# Altium schematic symbol library CM3_CM4_2021_Lib.SchLib: 258 symbols (part 4 of 4)
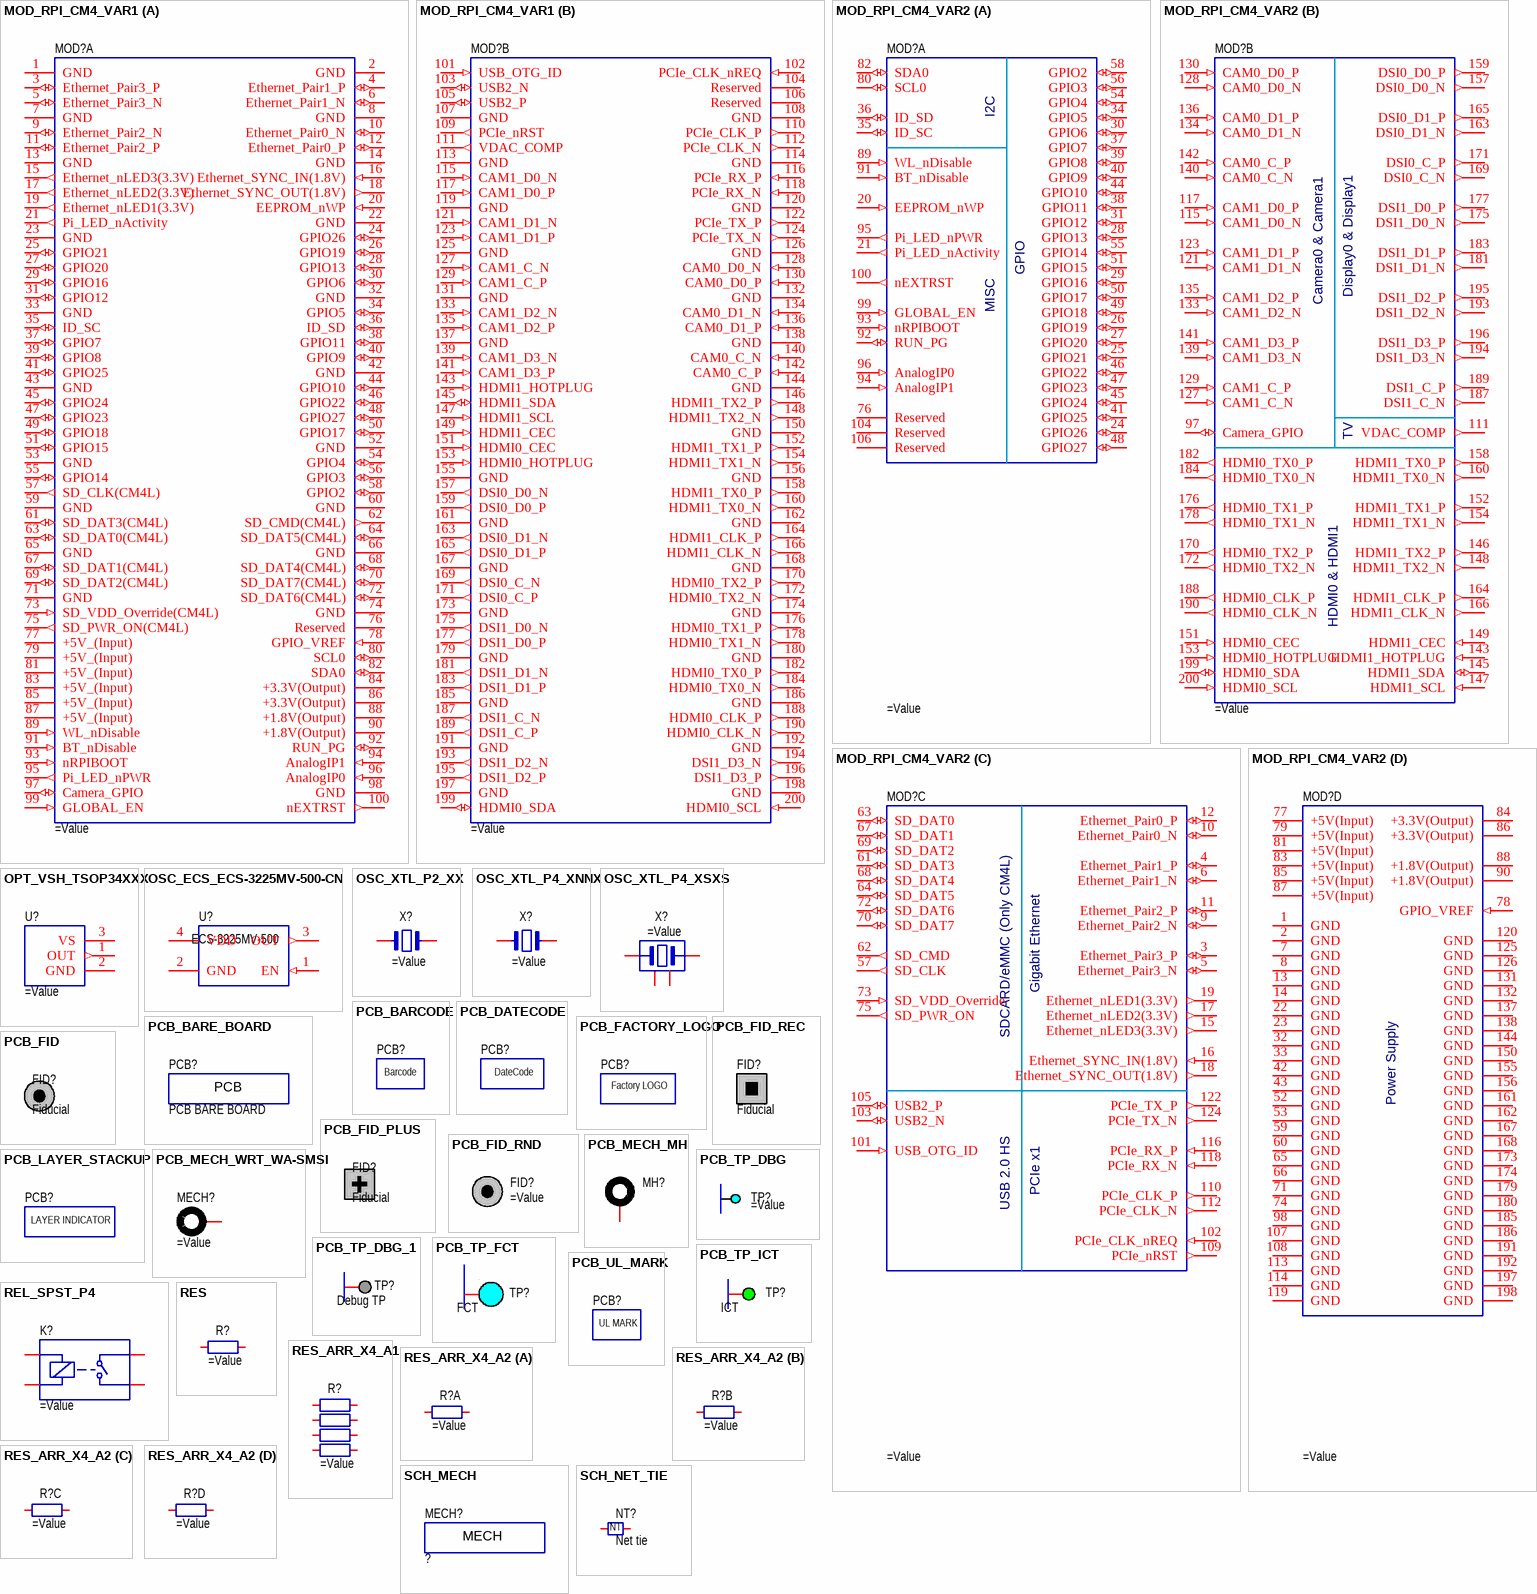
[diagram p18: symbols MOD_RPI_CM4_VAR1 to SCH_NET_TIE]

## PCB_FACTORY_LOGO
designator PCB?  (net tie, no BOM)
SCH SYMBOL STATUS: Checked
footprint PCB_INFO_FACTORY_LOGO
text: Factory LOGO

## PCB_FID
designator FID?, comment Fiducial  (no BOM)
Component Type: Fiducial; Manufacturer: -; Mounting Type: -; MPN: -; Operating Temperature: -; Package: -; Specification: Fiducial; Value: Fiducial
footprint FID-RND-1.0x3.0
footprint FID-RND-1.5x3.0

## PCB_FID_PLUS
designator FID?, comment Fiducial  (no BOM)
Fiducial, plus; FT Item: ?; Component Type: Fiducial; Manufacturer: -; Mounting Type: -; MPN: -; Operating Temperature: -; Package: -; Specification: Fiducial; Value: Fiducial

## PCB_FID_REC
designator FID?, comment Fiducial  (no BOM)
Fiducial, rectangle; FT Item: ?; Component Type: Fiducial; Manufacturer: -; Mounting Type: -; MPN: -; Operating Temperature: -; Package: -; Specification: Fiducial; Value: Fiducial

## PCB_FID_RND
designator FID?  (no BOM)
PCB Marking; Fiducial; Round;

## PCB_LAYER_STACKUP
designator PCB?  (net tie, no BOM)
text: LAYER INDICATOR

## PCB_MECH_MH
designator MH?  (no BOM)
PCB Marking; Mounting hole;; SCH SYMBOL STATUS: Checked
pins: 1

## PCB_MECH_WRT_WA-SMSI
designator MECH?
PCB; Mechanical; SMT Steel Spacer; M3;
pins: 1

## PCB_TP_DBG
designator TP?  (no BOM)
PCB Marking; Test Point (Debug);
pins: 1

## PCB_TP_DBG_1
designator TP?, comment Debug TP  (no BOM)
Testpoint (debug); Specification: Testpoint (for debug mode only), SMD pad; Component Type: Testpoint (for debug); Manufacturer: -; Mounting Type: Non component; MPN: -; Operating Temperature: -; Package: -; Value: Debug TP
pins: 1

## PCB_TP_FCT
designator TP?, comment FCT  (no BOM)
Testpoint (FCT); Specification: Testpoint (for FCT), SMD pad; Component Type: Testpoint (for FCT); Manufacturer: -; Mounting Type: Non component; MPN: -; Operating Temperature: -; Package: -; Value: FCT
pins: 1

## PCB_TP_ICT
designator TP?, comment ICT  (no BOM)
Test Point (ICT); Specification: Testpoint (for ICT), SMD pad; Component Type: Testpoint (for ICT); Manufacturer: -; Mounting Type: Non component; MPN: -; Operating Temperature: -; Package: -; Value: ICT
pins: 1

## PCB_UL_MARK
designator PCB?  (net tie, no BOM)
SCH SYMBOL STATUS: Checked
footprint PCB_INFO_UL_MARKING
text: UL MARK

## REL_SPST_P4
designator K?
Relay; SPST;
pins: A1, A2, S1 (power), S2 S1 (power)

## RES
designator R?
Resistor; Fixed;
pins: 1, 2

## RES_ARR_X4_A1
designator R?
Resistor; Fixed; Array X4;
pins: 1, 2, 3, 4, 5, 6, 7, 8

## RES_ARR_X4_A2
designator R?
Resistor; Fixed; Array X4;
part A pins: 1, 8
part B pins: 2, 7
part C pins: 3, 6
part D pins: 4, 5

## SCH_MECH
designator MECH?, comment ?  (mechanical)
Mechanical; Component Type: Mechanical; Value: ?
text: MECH

## SCH_NET_TIE
designator NT?, comment Net tie  (net tie, no BOM)
Component Type: Net tie; Manufacturer: -; Mounting Type: -; MPN: -; Operating Temperature: -; Package: -; Specification: Net tie; Value: Net tie
footprint NET_TIE_0.15mm (Footprint not found)
pins: 1, 2
text: NT

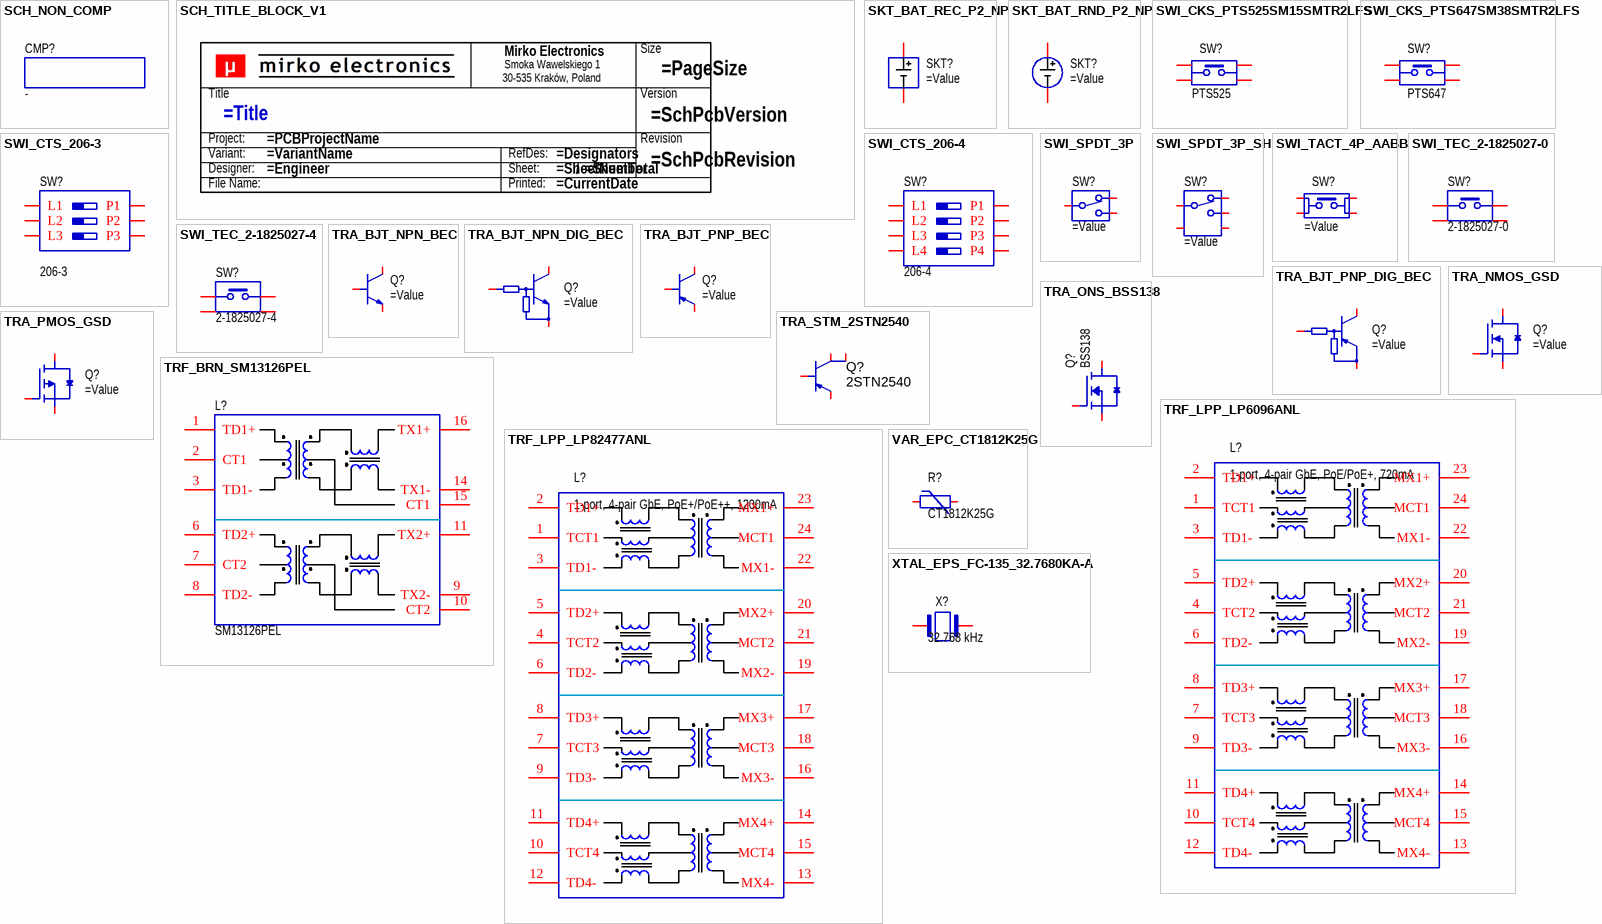
[diagram p15: symbols SCH_NON_COMP to XTAL_EPS_FC-135_32.7680KA-A]

## SCH_NON_COMP
designator CMP?, comment -  (no BOM)
NonComponent; Component Type: Non Component; Manufacturer: -; Mounting Type: -; MPN: -; Operating Temperature: -; Package: -; Specification: -; Value: -

## SCH_TITLE_BLOCK_V1
designator TB?, comment Title block  (value not drawn)  (graphical)
Component Type: Title block; Manufacturer: -; Mounting Type: Non component; MPN: -; Operating Temperature: -; Package: -; Specification: Title block; Value: Title block; Replacement: -; System: ?
text: Mirko Electronics; Size; Smoka Wawelskiego 1; 30-535 Kraków, Poland; Title; Version; Project:; Revision; Variant:; RefDes:; Designer:; Sheet:; /; File Name:; Printed:

## SKT_BAT_REC_P2_NP
designator SKT?
Socket; Battery;
pins: 1, 2

## SKT_BAT_RND_P2_NP
designator SKT?
Socket; Battery;
pins: 1, 2

## SWI_CKS_PTS525SM15SMTR2LFS
designator SW?, comment PTS525
Switch; Manufacturer: C&K Switches; MPN: PTS525SM15SMTR2LFS; Replacement: YES; Specification: Tactile switch, 20mA, 15VDC, 160gf force, 1.5mm height, SMD package; Component Type: Switch; Mounting Type: SMD; Operating Temperature: -20°C to +70°C; Package: SMD; System: ?; Value: PTS525
footprint TACTB-64K
pins: 1, 2, 3, 4

## SWI_CKS_PTS647SM38SMTR2LFS
designator SW?, comment PTS647
Switch; Manufacturer: C&K Switches; MPN: PTS647SM38SMTR2LFS; Replacement: YES; Specification: Tactile switch, 50mA, 12VDC, 1.8N force, 3.8mm height, 3.0mm pitch, 4.5mm x 4.5mm size, SMD package; Component Type: Switch; Mounting Type: SMD; Operating Temperature: -20°C to +70°C; Package: SMD; System: ?; Value: PTS647
footprint SWI_CKS_PTS647Sx38
pins: 1, 2, 3, 4

## SWI_CTS_206-3
designator SW?, comment 206-3
DIP Switch; Manufacturer: CTS; Replacement: YES; Specification: DIP switch, 3 positions, SPST, 2.54mm pitch, 7.62mm row space, THT package; Component Type: DIP Switch; Mounting Type: THT; MPN: 206-3; Operating Temperature: -40°C to +85°C; Package: THT; System: ?; Value: 206-3
footprint SWI_CTS_206-3 (Footprint not found)
pins: L1 (power), L2 (power), L3 (power), P1 (power), P2 (power), P3 (power)

## SWI_CTS_206-4
designator SW?, comment 206-4
DIP Switch; Manufacturer: CTS; Replacement: YES; Specification: DIP switch, 4 positions, SPST, 2.54mm pitch, 7.62mm row space, THT package; Component Type: DIP Switch; Mounting Type: THT; MPN: 206-4; Operating Temperature: -40°C to +85°C; Package: THT; System: ?; Value: 206-4
footprint SWI_CTS_206-4 (Footprint not found)
pins: L1 (power), L2 (power), L3 (power), L4 (power), P1 (power), P2 (power), P3 (power), P4 (power)

## SWI_SPDT_3P
designator SW?
Switch; SPDT;
pins: 1, 2, 3

## SWI_SPDT_3P_SH
designator SW?
Switch; SPDT;
pins: 1, 2, 3, SH SH2, SH1

## SWI_TACT_4P_AABB
designator SW?
Switch; Tactile; Monostable;
pins: 1, 2, 3, 4

## SWI_TEC_2-1825027-0
designator SW?, comment 2-1825027-0
Switch; Manufacturer: TE Connectivity; Specification: Tactile switch, SPST, 50mA/24VDC, 260g force, 9.24mm button length, black actuator, right angle, THT package; Component Type: Switch; Mounting Type: SMD; MPN: 2-1825027-0; Operating Temperature: -35°C to +85°C; Package: SMD; Value: 2-1825027-0
footprint SWI_TEC_12-1825027-0 (Footprint not found)
pins: 1 SW1, 2 SW2, 3 FRM1, 4 FRM2

## SWI_TEC_2-1825027-4
designator SW?, comment 2-1825027-4
Switch; Manufacturer: TE Connectivity; Specification: Tactile switch, SPST, 50mA/24VDC, 260g force, 13.25mm button length, red actuator, right angle, THT package; Component Type: Switch; Mounting Type: SMD; MPN: 2-1825027-4; Operating Temperature: -35°C to +85°C; Package: SMD; Value: 2-1825027-4
footprint SWI_TEC_12-1825027-4 (Footprint not found)
pins: 1 SW1, 2 SW2, 3 FRM1, 4 FRM2

## TRA_BJT_NPN_BEC
designator Q?
Transistor; BJT; NPN;
pins: 1 B, 2 E, 3 C

## TRA_BJT_NPN_DIG_BEC
designator Q?
Transistor; BJT; NPN; Digital (Biased);
pins: 1 B, 2 E, 3 C

## TRA_BJT_PNP_BEC
designator Q?
Transistor; BJT; PNP;
pins: 1 B, 2 E, 3 C

## TRA_BJT_PNP_DIG_BEC
designator Q?
Transistor; BJT; PNP; Digital (Biased);
pins: 1 B, 2 E, 3 C

## TRA_NMOS_GSD
designator Q?
Transistor; NMOS;
pins: 1 G, 2 S, 3 D

## TRA_ONS_BSS138
designator Q?, comment BSS138
TRA; Manufacturer: On Semiconductor; Specification: N-channel MOSFET transistor, logic level, 50V, 0.22A, SOT23-3 package; Package: SOT-23-3; MPN: BSS138; Mounting Type: SMD; Value: BSS138; Component Type: Transistor; Operating Temperature: -55°C to +150°C
footprint PKG_SOT23-3_TO236
pins: 1 G, 2 S, 3 D

## TRA_PMOS_GSD
designator Q?
Transistor; PMOS;
pins: 1 G, 2 S, 3 D

## TRA_STM_2STN2540
designator Q?, comment 2STN2540
PNP Transistor; Manufacturer: STMicroelectronics; Specification: Bipolar transistor BJT, PNP polarity, 40V VCE0max, 5A ICmax, SOT-223-4 package; Component Type: Transistor; Mounting Type: SMD; MPN: 2STN2540; Operating Temperature: -65°C to +150°C; Package: SOT-223-4; Value: 2STN2540
footprint SOT223-4_TO261AA
pins: 1 B, 2 C, 3 E, 4 C

## TRF_BRN_SM13126PEL
designator L?, comment SM13126PEL
LAN Transformer; 10/100BASE-TX;; Manufacturer: Bourns; Specification: 1-port, 10/100Base-Tx LAN transformer, PoE standard (up to 350mA), 16-pin SMD package; Component Type: Transformer; Mounting Type: SMD; MPN: SM13126PEL; Operating Temperature: -40°C to +85°C; Package: SMD; Value: SM13126PEL
pins: 1 TD1+, 2 CT1, 3 TD1-, 6 TD2+, 7 CT2, 8 TD2-, 9 TX2-, 10 CT2, 11 TX2+, 14 TX1-, 15 CT1, 16 TX1+

## TRF_LPP_LP6096ANL
designator L?, comment 1-port, 4-pair GbE, PoE/PoE+, 720mA
LAN Transformer; Manufacturer: LINK-PP; MPN: LP6096ANL; Specification: 1-port, 4-pair 1000Base-T LAN transformer, PoE/PoE+ standard (IEEE 802.3af/at), 720mA, 24-pin SMD package; Component Type: Transformer; Mounting Type: SMD; Operating Temperature: -40°C to +85°C; Package: 24pin SMD; Value: 1-port, 4-pair GbE, PoE/PoE+, 720mA
pins: 1 TCT1, 2 TD1+, 3 TD1-, 4 TCT2, 5 TD2+, 6 TD2-, 7 TCT3, 8 TD3+, 9 TD3-, 10 TCT4, 11 TD4+, 12 TD4-, 13 MX4-, 14 MX4+, 15 MCT4, 16 MX3-, 17 MX3+, 18 MCT3, 19 MX2-, 20 MX2+, 21 MCT2, 22 MX1-, 23 MX1+, 24 MCT1

## TRF_LPP_LP82477ANL
designator L?, comment 1-port, 4-pair GbE, PoE+/PoE++, 1200mA
LAN Transformer; Manufacturer: LINK-PP; MPN: LP82477ANL; Specification: 1-port, 4-pair 1000Base-T LAN transformer, PoE+/PoE++ standard (IEEE 802.3bt), 1200mA, 24-pin SMD package; Component Type: Transformer; Mounting Type: SMD; Operating Temperature: -40°C to +85°C; Package: 24pin SMD; Value: 1-port, 4-pair GbE, PoE+/PoE++, 1200mA
pins: 1 TCT1, 2 TD1+, 3 TD1-, 4 TCT2, 5 TD2+, 6 TD2-, 7 TCT3, 8 TD3+, 9 TD3-, 10 TCT4, 11 TD4+, 12 TD4-, 13 MX4-, 14 MX4+, 15 MCT4, 16 MX3-, 17 MX3+, 18 MCT3, 19 MX2-, 20 MX2+, 21 MCT2, 22 MX1-, 23 MX1+, 24 MCT1

## VAR_EPC_CT1812K25G
designator R?, comment CT1812K25G
Varistor 1812; Manufacturer: TDK (Epcos); MPN: B72580E0250K062; Specification: Ceramic multilayer varistor, 25V RMS, SMD 1812 package; Component Type: Varistor; Mounting Type: SMD; Operating Temperature: -55°C to +150°C; Package: SMD 1812 (4532); Value: CT1812K25G
footprint 1812R (Footprint not found)
pins: 1, 2

## XTAL_EPS_FC-135_32.7680KA-A
designator X?, comment 32.768 kHz
XTAL; Manufacturer: Seiko Epson Corp.; MPN: FC-135 32.7680KA-A; Specification: Crystal, 32.768 kHz, 20ppm, 12.5pF, SMD 3.2x1.5x0.8mm package; Replacement: YES; Component Type: Crystal; Mounting Type: SMD; Operating Temperature: -40°C to +85°C; Package: SMD 3.2x1.5x0.8mm; Value: 32.768 kHz; System: ?
footprint OSC_EPS_FC-135 (Footprint not found)
pins: 1, 2